# EAGLE library part DCV01D (library burr-brown)
UNREGULATED DC/DC CONVERTER Miniature, 1W, 1500Vrms Isolated
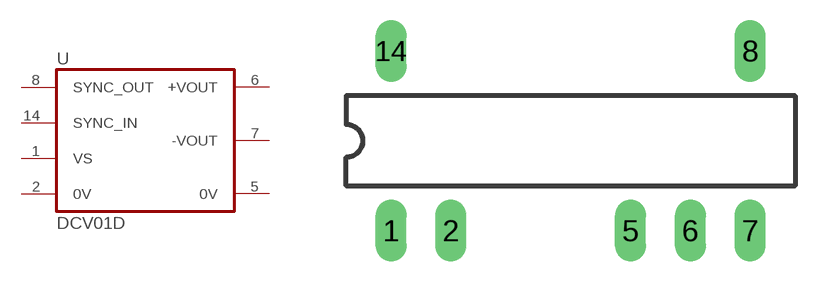
[diagram p182: symbol with the pads of DIL14/7; footprint DIL14/7]

Designator prefix U

## DCV01D  [DIL14/7]
1  VS  pwr
2  0V  pwr
5  0V  pwr
6  +VOUT  oc
7  -VOUT
8  SYNC_OUT
14  SYNC_IN

## Footprint DIL14/7 (pad centres in mm)
Dual In Line
drill 0.813 long: 1 -7.62,-3.81; 2 -5.08,-3.81; 5 2.54,-3.81; 6 5.08,-3.81; 7 7.62,-3.81; 8 7.62,3.81; 14 -7.62,3.81